# Altium footprint library HyTechDevices.PCBLIB: 298 footprints (part 14 of 19)
Each footprint in its own frame and in the unit in brackets; x right, y up, seen from the top. Pads: shape width x height; smd on the part's side, far side on the other; paste and mask are expansions set on the pad; w line width, h text height; cw(c..) or ccw(c..) is an arc to the next point about the centre after c.
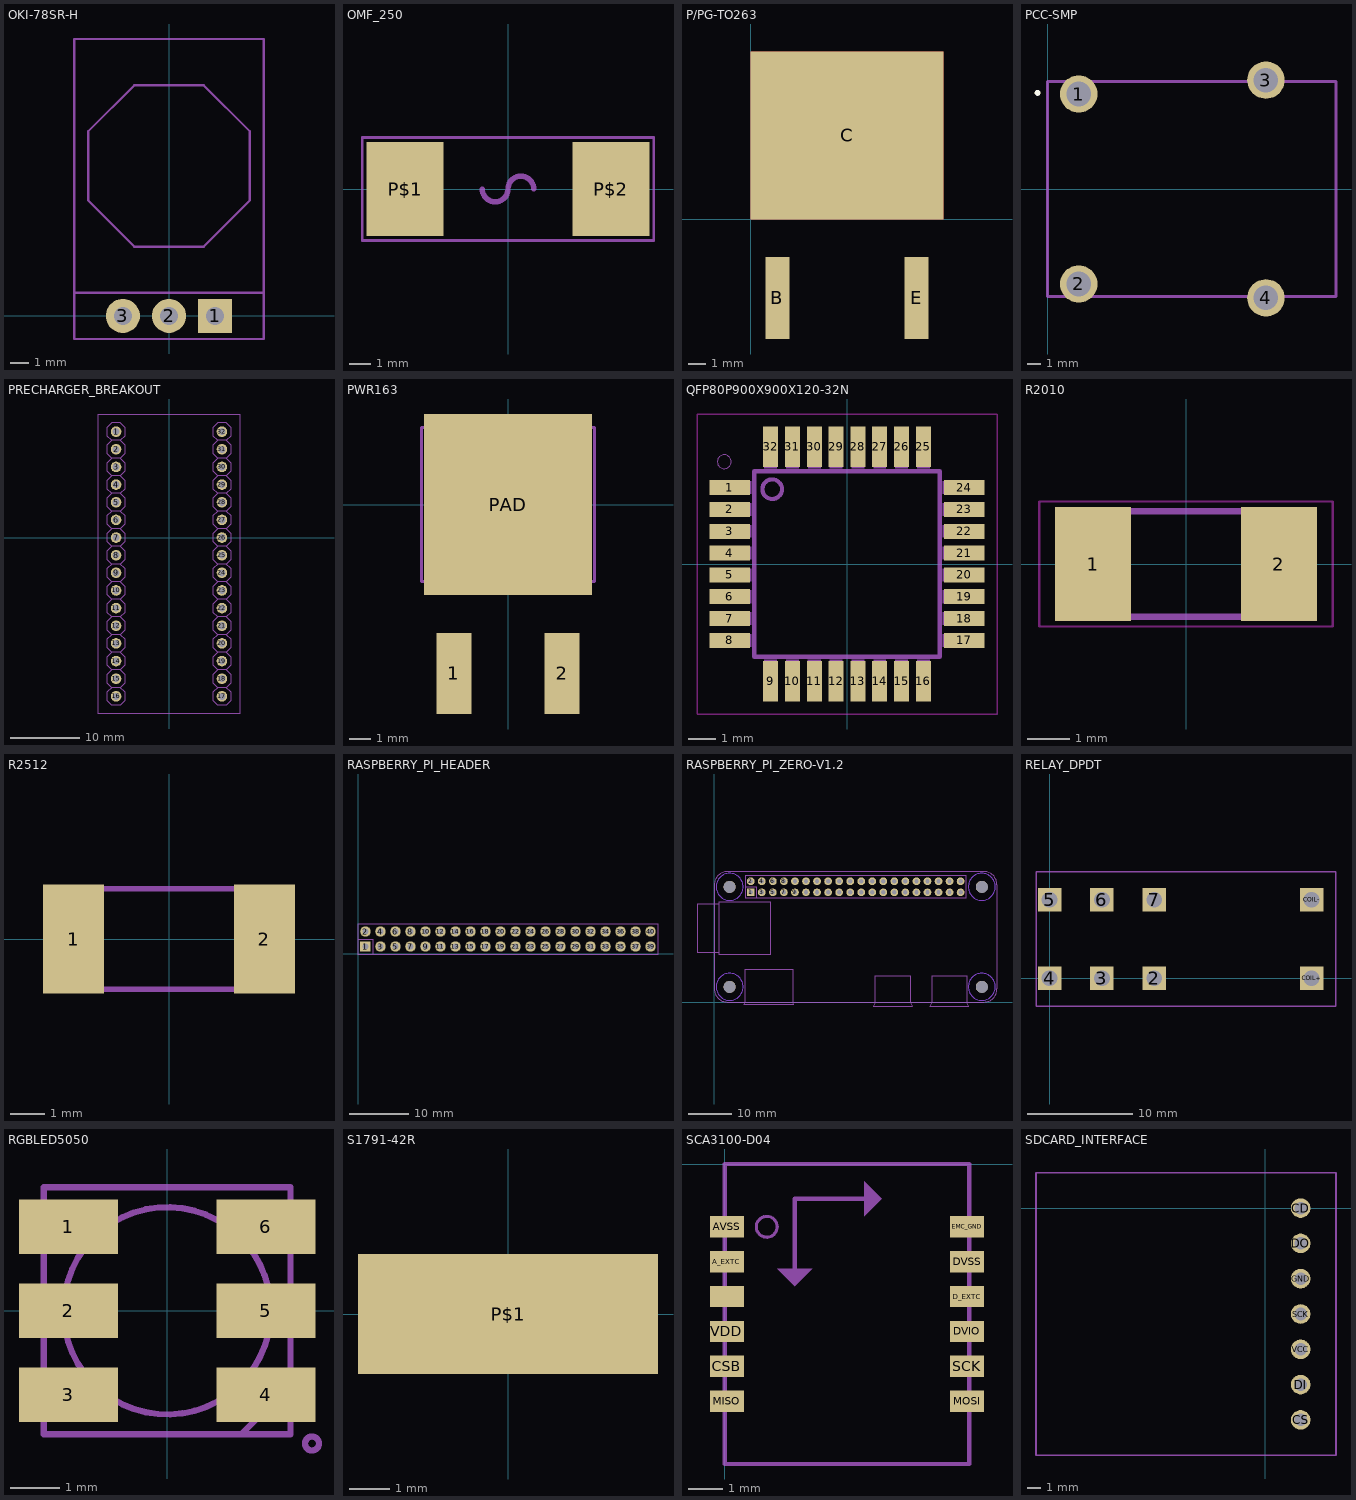
[diagram p13: the footprints below, top view; thin cyan lines are the x and y axes]

## OKI-78SR-H [mil]
pads (3):
  rect 74x74 / inner round 68.37 / far side rect 74x74 hole 39.37: 1(100,0)
  round 74 hole 39.37: 2(0,0) 3(-100,0)
Mechanical 7:
  lines w5: -205,50 -205,-50 205,-50 205,50 ; -205,50 -205,600 205,600 205,50 ; -205,50 205,50 ; -175,250 -175,400 -75,500 75,500 175,400 175,250 75,150 -75,150 -175,250

## OMF_250 [mil]
pads (2):
  rect 141.73x173.23 smd: P$1(-188.98,0) P$2(188.98,0)
Mechanical 7:
  lines w5: -267.72,-94.49 267.72,-94.49 267.72,94.49 -267.72,94.49 -267.72,-94.49
  lines w10: -47.24,0 ccw(c-23.62,0) -23.62,-23.62 ccw(c-23.62,0) 0,0 cw(c23.62,0) 23.62,23.62 cw(c23.62,0) 47.24,0

## P/PG-TO263 [mm]
pads (3):
  rect 1.35x4.6 smd: B(1.5,-4.4) E(9.3,-4.4)
  rect 10.8x9.4 smd: C(5.4,4.7)
Top Layer:
  region: 0,0 0,9.4 10.8,9.4 10.8,0

## PCC-SMP [mil]
pads (4):
  round 106.3 hole 69.69: 1(88.58,269.69) 2(88.58,-269.69) 3(620.08,309.06) 4(620.08,-309.06)
Top Overlay:
  circle w7.87: c-28.39,272.91 r4.37
Mechanical 3:
  lines w7.87: 0,-305.12 818.9,-305.12 818.9,305.12 0,305.12 0,-305.12
Mechanical 7:
  lines w7.87: 0,-305.12 0,305.12 ; 138.46,-305.12 555.12,-305.12 ; 138.46,305.12 555.12,305.12 ; 685.04,-305.12 818.9,-305.12 818.9,305.12 685.04,305.12

## PRECHARGER_BREAKOUT [mil]
pads (32):
  round 60 hole 40: 1(-300,600) 2(-300,500) 3(-300,400) 4(-300,300) 5(-300,200) 6(-300,100) 7(-300,0) 8(-300,-100) 9(-300,-200) 10(-300,-300) 11(-300,-400) 12(-300,-500) 13(-300,-600) 14(-300,-700) 15(-300,-800) 16(-300,-900) 17(300,-900) 18(300,-800) 19(300,-700) 20(300,-600) 21(300,-500) 22(300,-400) 23(300,-300) 24(300,-200) 25(300,-100) 26(300,0) 27(300,100) 28(300,200) 29(300,300) 30(300,400) 31(300,500) 32(300,600)
Mechanical 3:
  region: -310,10 -290,10 -290,-10 -310,-10
  region: -310,110 -290,110 -290,90 -310,90
  region: -310,210 -290,210 -290,190 -310,190
  region: -310,310 -290,310 -290,290 -310,290
  region: -310,410 -290,410 -290,390 -310,390
  region: -310,510 -290,510 -290,490 -310,490
  region: -310,610 -290,610 -290,590 -310,590
  region: -310,-90 -290,-90 -290,-110 -310,-110
  region: 290,10 310,10 310,-10 290,-10
  region: 290,110 310,110 310,90 290,90
  region: 290,210 310,210 310,190 290,190
  region: 290,310 310,310 310,290 290,290
  region: 290,410 310,410 310,390 290,390
  region: 290,510 310,510 310,490 290,490
  region: 290,610 310,610 310,590 290,590
  region: 290,-90 310,-90 310,-110 290,-110
  region: -310,-790 -290,-790 -290,-810 -310,-810
  region: -310,-690 -290,-690 -290,-710 -310,-710
  region: -310,-590 -290,-590 -290,-610 -310,-610
  region: -310,-490 -290,-490 -290,-510 -310,-510
  region: -310,-390 -290,-390 -290,-410 -310,-410
  region: -310,-290 -290,-290 -290,-310 -310,-310
  region: -310,-190 -290,-190 -290,-210 -310,-210
  region: -310,-890 -290,-890 -290,-910 -310,-910
  region: 290,-790 310,-790 310,-810 290,-810
  region: 290,-690 310,-690 310,-710 290,-710
  region: 290,-590 310,-590 310,-610 290,-610
  region: 290,-490 310,-490 310,-510 290,-510
  region: 290,-390 310,-390 310,-410 290,-410
  region: 290,-290 310,-290 310,-310 290,-310
  region: 290,-190 310,-190 310,-210 290,-210
  region: 290,-890 310,-890 310,-910 290,-910
Mechanical 7:
  drawing of 230 lines, arcs and shapes, not listed

## PWR163 [mil]
pads (3):
  rect 65x150 smd: 1(-100,-312.5) 2(100,-312.5)
  rect 310x335 smd: PAD(0,0)
Mechanical 7:
  lines w5: -160,-142.5 160,-142.5 160,142.5 -160,142.5 -160,-142.5

## QFP80P900X900X120-32N [mm]
pads (32):
  rect 1.5x0.55 smd: 1(-4.3,2.8) 2(-4.3,2) 3(-4.3,1.2) 4(-4.3,0.4) 5(-4.3,-0.4) 6(-4.3,-1.2) 7(-4.3,-2) 8(-4.3,-2.8) 17(4.3,-2.8) 18(4.3,-2) 19(4.3,-1.2) 20(4.3,-0.4) 21(4.3,0.4) 22(4.3,1.2) 23(4.3,2) 24(4.3,2.8)
  rect 0.55x1.5 smd: 9(-2.8,-4.3) 10(-2,-4.3) 11(-1.2,-4.3) 12(-0.4,-4.3) 13(0.4,-4.3) 14(1.2,-4.3) 15(2,-4.3) 16(2.8,-4.3) 25(2.8,4.3) 26(2,4.3) 27(1.2,4.3) 28(0.4,4.3) 29(-0.4,4.3) 30(-1.2,4.3) 31(-2,4.3) 32(-2.8,4.3)
Top Layer keep-out:
  lines w0.05: -5.5,-5.5 5.5,-5.5 5.5,5.5 -5.5,5.5 -5.5,-5.5
Mechanical 3:
  region: -4.497,2.571 -4.497,3.029 -3.506,3.029 -3.506,2.571
  region: -4.505,1.775 -4.505,2.229 -3.506,2.229 -3.506,1.775
  region: -4.5,0.972 -4.5,1.428 -3.506,1.428 -3.506,0.972
  region: -4.5,0.171 -4.5,0.629 -3.506,0.629 -3.506,0.171
  region: -4.503,-0.629 -4.503,-0.171 -3.506,-0.171 -3.506,-0.629
  region: -4.502,-1.43 -4.502,-0.971 -3.506,-0.971 -3.506,-1.43
  region: -4.501,-2.231 -4.501,-1.771 -3.506,-1.771 -3.506,-2.231
  region: -4.501,-3.032 -4.501,-2.571 -3.506,-2.571 -3.506,-3.032
  region: -3.035,-4.505 -3.035,-3.506 -2.571,-3.506 -2.571,-4.505
  region: -2.23,-4.5 -2.23,-3.506 -1.771,-3.506 -1.771,-4.5
  region: -1.431,-4.504 -1.431,-3.506 -0.971,-3.506 -0.971,-4.504
  region: -0.629,-4.498 -0.629,-3.506 -0.171,-3.506 -0.171,-4.498
  region: 0.172,-4.502 0.172,-3.506 0.629,-3.506 0.629,-4.502
  region: 0.972,-4.498 0.972,-3.506 1.428,-3.506 1.428,-4.498
  region: 1.774,-4.504 1.774,-3.506 2.229,-3.506 2.229,-4.504
  region: 2.575,-4.503 2.575,-3.506 3.029,-3.506 3.029,-4.503
  region: 3.507,-3.029 3.507,-2.571 4.497,-2.571 4.497,-3.029
  region: 3.513,-2.233 3.513,-1.771 4.497,-1.771 4.497,-2.233
  region: 3.511,-1.431 3.511,-0.971 4.497,-0.971 4.497,-1.431
  region: 3.509,-0.629 3.509,-0.171 4.497,-0.171 4.497,-0.629
  region: 3.509,0.171 3.509,0.629 4.497,0.629 4.497,0.171
  region: 3.511,0.973 3.511,1.428 4.497,1.428 4.497,0.973
  region: 3.511,1.774 3.511,2.229 4.497,2.229 4.497,1.774
  region: 3.512,2.575 3.512,3.029 4.497,3.029 4.497,2.575
  region: 2.576,3.513 2.576,4.497 3.029,4.497 3.029,3.513
  region: 1.774,3.511 1.774,4.497 2.229,4.497 2.229,3.511
  region: 0.972,3.509 0.972,4.497 1.428,4.497 1.428,3.509
  region: 0.171,3.506 0.171,4.497 0.629,4.497 0.629,3.506
  region: -0.63,3.513 -0.63,4.497 -0.171,4.497 -0.171,3.513
  region: -1.43,3.508 -1.43,4.497 -0.971,4.497 -0.971,3.508
  region: -2.233,3.512 -2.233,4.497 -1.771,4.497 -1.771,3.512
  region: -3.031,3.51 -3.031,4.497 -2.571,4.497 -2.571,3.51
Mechanical 7:
  circle w0.152: c-2.743,2.743 r0.359
  circle w0: c-4.5,3.75 r0.254
  lines w0.152: -3.4,-3.4 3.4,-3.4 3.4,3.4 -3.4,3.4 -3.4,-3.4

## R2010 [mil]
pads (2):
  rect 70.87x106.3 smd: 1(-86.61,0) 2(86.61,0)
Top Layer keep-out:
  lines w2: -136.73,-58.39 136.73,-58.39 136.73,58.39 -136.73,58.39 -136.73,-58.39
Mechanical 3:
  region: -98,-52 -98,52.33 -64.54,52.33 -64.54,-52
  region: 65,-52 65,52.33 98.46,52.33 98.46,-52
  lines w6: -65.43,49.02 65.43,49.02 ; -64.45,-49.02 66.42,-49.02
Mechanical 7:
  lines w6: -40.43,49.02 40.43,49.02 ; -39.45,-49.02 40,-49.02

## R2512 [mil]
pads (2):
  rect 70.87x125.98 smd: 1(-110.24,0) 2(110.24,0)
Mechanical 3:
  region: -126,-61 -126,61.05 -92.54,61.05 -92.54,-61
  region: 93,-61 93,61.05 126.46,61.05 126.46,-61
  lines w6: -92.99,-57.99 93.98,-57.99 ; -92.99,57.99 93.98,57.99

## RASPBERRY_PI_HEADER [mil]
pads (40):
  rect 70x70 / inner round 64.67 / far side rect 70x70 hole 39.37: 1(49.92,49.76)
  round 70 hole 39.37: 2(49.92,149.76) 3(149.92,49.76) 4(149.92,149.76) 5(249.92,49.76) 6(249.92,149.76) 7(349.92,49.76) 8(349.92,149.76) 9(449.92,49.76) 10(449.92,149.76) 11(549.92,49.76) 12(549.92,149.76) 13(649.92,49.76) 14(649.92,149.76) 15(749.92,49.76) 16(749.92,149.76) 17(849.92,49.76) 18(849.92,149.76) 19(949.92,49.76) 20(949.92,149.76) 21(1049.92,49.76) 22(1049.92,149.76) 23(1149.92,49.76) 24(1149.92,149.76) 25(1249.92,49.76) 26(1249.92,149.76) 27(1349.92,49.76) 28(1349.92,149.76) 29(1449.92,49.76) 30(1449.92,149.76) 31(1549.92,49.76) 32(1549.92,149.76) 33(1649.92,49.76) 34(1649.92,149.76) 35(1749.92,49.76) 36(1749.92,149.76) 37(1849.92,49.76) 38(1849.92,149.76) 39(1949.92,49.76) 40(1949.92,149.76)
Mechanical 7:
  lines w5: -0.08,99.76 -0.08,199.76 1999.92,199.76 1999.92,-0.24 99.92,-0.24 ; -0.08,99.76 -0.08,-0.24 99.92,-0.24 ; -0.08,99.76 99.92,99.76 99.92,-0.24

## RASPBERRY_PI_ZERO-V1.2 [mil]
pads (44):
  rect 70x70 / inner round 64.67 / far side rect 70x70 hole 39.37: 1(329.53,993.31)
  round 70 hole 39.37: 2(329.53,1093.31) 3(429.53,993.31) 4(429.53,1093.31) 5(529.53,993.31) 6(529.53,1093.31) 7(629.53,993.31) 8(629.53,1093.31) 9(729.53,993.31) 10(729.53,1093.31) 11(829.53,993.31) 12(829.53,1093.31) 13(929.53,993.31) 14(929.53,1093.31) 15(1029.53,993.31) 16(1029.53,1093.31) 17(1129.53,993.31) 18(1129.53,1093.31) 19(1229.53,993.31) 20(1229.53,1093.31) 21(1329.53,993.31) 22(1329.53,1093.31) 23(1429.53,993.31) 24(1429.53,1093.31) 25(1529.53,993.31) 26(1529.53,1093.31) 27(1629.53,993.31) 28(1629.53,1093.31) 29(1729.53,993.31) 30(1729.53,1093.31) 31(1829.53,993.31) 32(1829.53,1093.31) 33(1929.53,993.31) 34(1929.53,1093.31) 35(2029.53,993.31) 36(2029.53,1093.31) 37(2129.53,993.31) 38(2129.53,1093.31) 39(2229.53,993.31) 40(2229.53,1093.31)
  round 108.27 hole 108.27 unplated: MH1(137.8,137.8) MH2(137.8,1043.31) MH3(2421.26,137.8) MH4(2421.26,1043.31)
Top Layer keep-out:
  circle w5: c137.8,137.8 r122.05
  circle w5: c2421.26,137.8 r122.05
  circle w5: c2421.26,1043.31 r122.05
  circle w5: c137.8,1043.31 r122.05
Bottom Layer keep-out:
  circle w5: c137.8,1043.31 r122.05
  circle w5: c137.8,137.8 r122.05
  circle w5: c2421.26,137.8 r122.05
  circle w5: c2421.26,1043.31 r122.05
Mechanical 4:
  lines w5: 39.37,452.76 39.37,885.83 ; 39.37,452.76 39.37,433.07 511.81,433.07 511.81,905.51 39.37,905.51 39.37,885.83 ; 39.37,452.76 -157.48,452.76 -157.48,885.83 39.37,885.83 ; 265.75,-19.69 275.59,0 275.59,295.28 708.66,295.28 708.66,0 718.5,-19.69 265.75,-19.69
  lines w10: 1452.76,0 1781.5,0 ; 1948.82,0 2277.56,0 ; 0,118.11 ccw(c118.11,118.11) 118.11,0 275.59,0 708.66,0 2440.94,0 ccw(c2440.95,118.11) 2559.06,118.11 2559.06,1062.99 ccw(c2440.95,1062.98) 2440.94,1181.1 118.11,1181.1 ccw(c118.11,1062.99) 0,1062.99 0,118.11
Mechanical 7:
  lines w5: 279.53,1043.31 279.53,1143.31 2279.53,1143.31 2279.53,943.31 379.53,943.31 ; 279.53,1043.31 279.53,943.31 317.03,943.31 342.03,943.31 379.53,943.31 ; 279.53,1043.31 379.53,1043.31 379.53,943.31 ; 1437.01,-39.37 1456.69,0 1456.69,236.22 1771.65,236.22 1771.65,0 1791.34,-39.37 1437.01,-39.37 ; 1948.82,-39.37 1968.5,0 1968.5,236.22 2283.46,236.22 2283.46,0 2303.15,-39.37 1948.82,-39.37
  text "HDMI" at 393.7,118.11 h77.5
  text "USB" at 1555.12,98.43 h77.5
  text "USB" at 2066.93,98.43 h77.5
  text "Micro SD" at 118.11,669.29 h77.5
  text "Raspberry Pi Zero (1.2)" at 669.29,551.18 h183.07

## RELAY_DPDT [mil]
pads (8):
  rect 88.59x88.59 / inner round 81.85 / far side rect 88.59x88.59 hole 59.06: 2(394,0) 3(197,0) 4(0,0) 5(0,295) 6(197,295) 7(394,295) COIL+(985,0) COIL-(985,295)
Mechanical 7:
  lines w5: -51,-104.5 -51,400 1077,400 1077,-104.5 -51,-104.5

## RGBLED5050 [mm]
pads (6):
  rect 2x1.1 smd: 1(-2,1.7) 2(-2,0) 3(-2,-1.7) 4(2,-1.7) 5(2,0) 6(2,1.7)
Mechanical 7:
  circle w0.127: c2.934,-2.688 r0.141
  circle w0.127: c0,0 r2.1
  lines w0.127: 1.5,-2.5 2.5,-2.5 2.5,-1.5 ; 1.5,-2.5 -2.5,-2.5 -2.5,2.5 2.5,2.5 2.5,-1.5 ; 1.5,-2.5 2.5,-1.5

## S1791-42R [mm]
pads (1):
  rect 7.5x3 smd: P$1(0,0)

## SCA3100-D04 [mil]
pads (12):
  rect 38.58x24.02 smd: A_EXTC(2.36,-110.24) AVSS(2.36,-70.87) CSB(2.36,-228.35) D_EXTC(273.23,-149.61) DVIO(273.23,-188.98) DVSS(273.23,-110.24) EMC_GND(273.23,-70.87) MISO(2.36,-267.72) MOSI(273.23,-267.72) RESERVED(2.36,-149.61) SCK(273.23,-228.35) VDD(2.36,-188.98)
Bottom Overlay:
  text "Murata SCA3100-D04" at 208.66,-165.35 h33.56
Mechanical 7:
  circle w3.54: c47.24,-70.87 r11.81
  lines w5: 0,-338.58 275.59,-338.58 275.59,0 0,0 0,-338.58
Mechanical 8:
  region: 177.17,-39.37 157.48,-19.69 157.48,-59.06
  region: 59.06,-118.11 98.43,-118.11 78.74,-137.8
  lines w5: 78.74,-118.11 78.74,-39.37 157.48,-39.37
  text "Y" at 118.11,-118.11 h42.72
  text "X" at 157.48,-78.74 h42.72

## SDCARD_INTERFACE [mil]
pads (7):
  round 55.43 hole 35.43: CD(100,0) CS(100,-600) DI(100,-500) DO(100,-100) GND(100,-200) SCK(100,-300) VCC(100,-400)
Mechanical 3:
  lines w5: -650,-700 -650,100 200,100 200,-700 -650,-700